# Altium integrated library MIKROE-2371.IntLib: 1 symbol
Pins are listed as number, name and electrical type; pins without a type are passive.

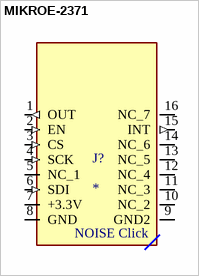
[diagram p0: symbol MIKROE-2371]

## MIKROE-2371
designator J?
Noise Click Board | MikroElektronika MIKROE-2371; SnapEDA_Link: https://www.snapeda.com/parts/MIKROE-2371/MikroElektronika/view-part/?ref=snap; Package: None; Value: *; MF: MikroElektronika; MP: MIKROE-2371; Check_prices: https://www.snapeda.com/parts/MIKROE-2371/MikroElektronika/view-part/?ref=eda
footprint MIKROE-2371
pins: 1 OUT (out), 2 EN (in), 3 CS (in), 4 SCK (in), 5 NC_1, 6 SDI (in), 7 +3.3V (power), 8 GND (power), 9 GND2 (power), 10 NC_2, 11 NC_3, 12 NC_4, 13 NC_5, 14 NC_6, 15 INT (out), 16 NC_7
text: NOISE Click